# Altium schematic symbol library kmilo17pet-LT_OpAmp_LT2000.SchLib: 1710 symbols (part 28 of 75)
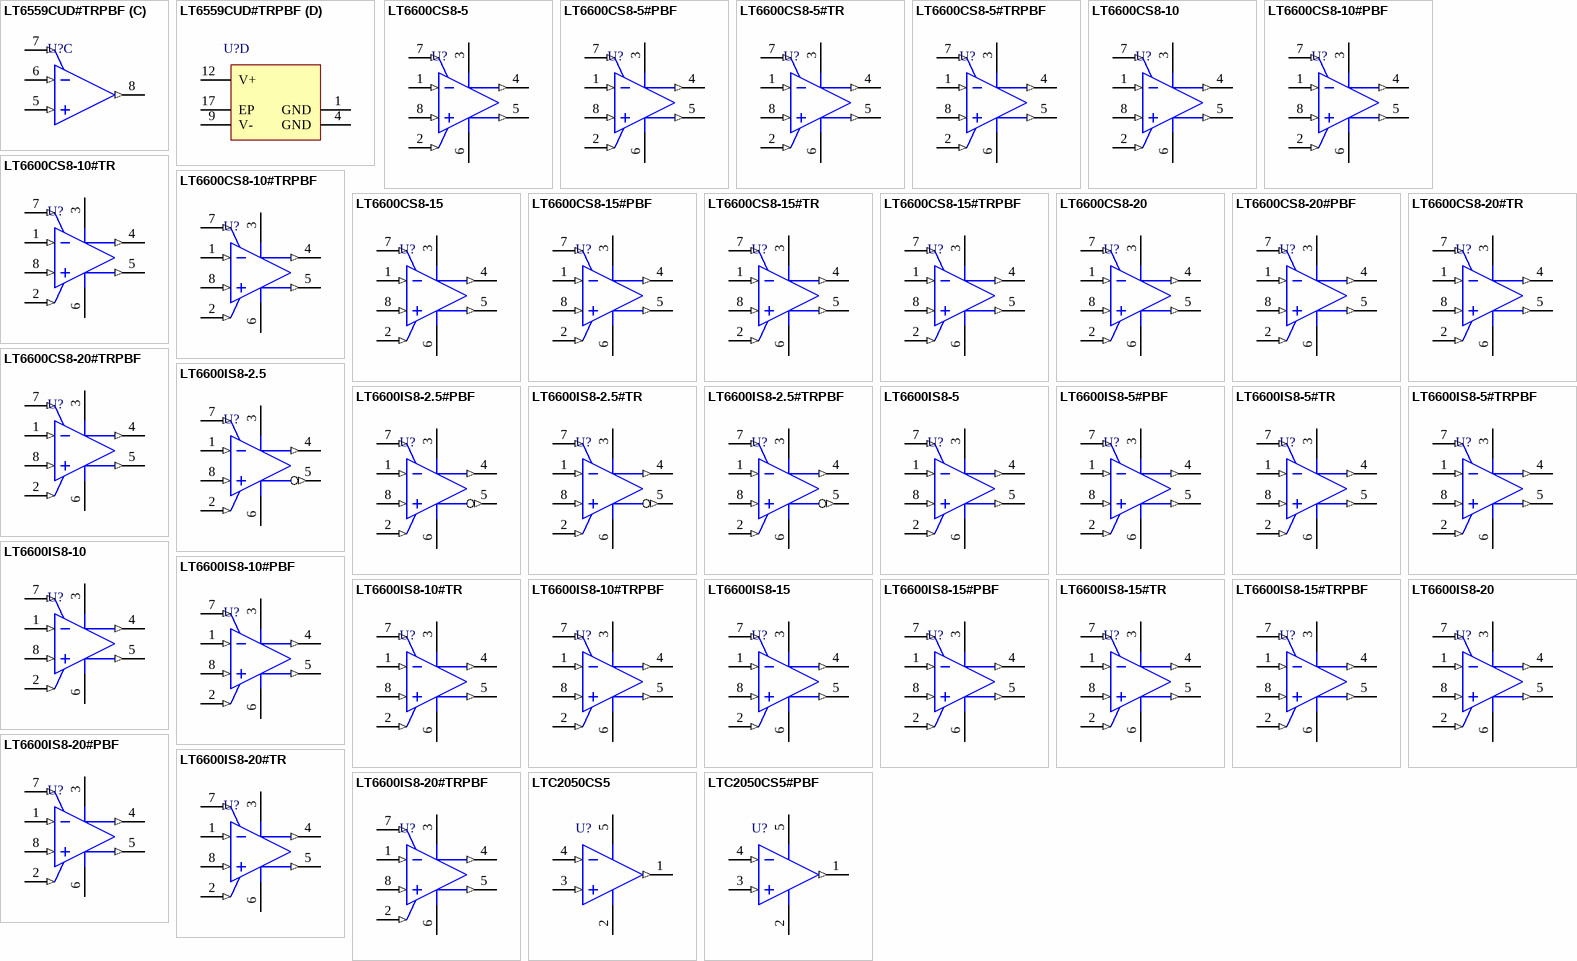
[diagram p107: symbols LT6559CUD#TRPBF to LTC2050CS5#PBF]

## LT6600CS8-20
designator U?
Single Channel, Very Low Noise, Differential Amplifier and 20MHz Lowpass Filter, 20 MHz Typical GBW, 2.7 to 11 V, 8-Pin SOIC (S8-8), Commercial; Linear Technology Part Number: LT6600-20; Manufacturer: Linear Technology; PartNumber: LT6600CS8-20; Channels (#): 1; GBW (MHz) Typical: 20; Is (mA) Typical: 42; Vos (mV) Typical: 5; Vs Max (V): 11; Vs Min (V): 2.7; DatasheetVersion: Rev. B; PackageVersion: Rev G; PackageReference: LT-S8-8; PackageDescription: 8-Pin Plastic Small Outline, Body 4.9 x 3.9 mm, Pitch 1.27 mm; Supplier 1: Digi-Key; Supplier Part Number 1: LT6600CS8-20-ND; Type: DIFF; Mounting Technology: Surface Mount; ComponentLink1Description: Manufacturer URL; ComponentLink1URL: http://www.linear.com/; ComponentLink2Description: Datasheet; ComponentLink2URL: http://cds.linear.com/docs/en/datasheet/66002fb.pdf; ComponentLink3Description: Package Specification; ComponentLink3URL: http://cds.linear.com/docs/en/packaging/05081610_G_SO8.pdf
footprint LT-S8-8_N (SOIC, 8-Leads, Body 4.9x3.9mm, Pitch 1.27mm, IPC Medium Density)
footprint LT-S8-8_L (SOIC, 8-Leads, Body 4.9x3.9mm, Pitch 1.27mm, IPC High Density)
footprint LT-S8-8_M (SOIC, 8-Leads, Body 4.9x3.9mm, Pitch 1.27mm, IPC Low Density)
pins: 1 IN- (in) "Input Pins. Signals can be applied to either or both input pins through identical external resistors, RIN. The DC gain from differential inputs to the differential outputs is 402ohm/RIN.", 2 VOCM (in) "Is the DC Common Mode Reference Voltage for the 2nd Filter Stage. Its value programs the common mode voltage of the differential output of the fi lter. Pin 2 is a high impedance input, which can be driven from an external (See Datasheet)", 3 V+ (power) "Power Supply Pins. For a single 3.3V or 5V supply (Pin 6 grounded) a quality 0.1uF ceramic bypass capacitor is required from the positive supply pin (Pin 3) to the negative supply pin (Pin 6). The bypass should be as close (See Datasheet)", 4 OUT+ (out) "Output Pins. Pins 4 and 5 are the filter differential outputs. Each pin can drive a 100ohm and/or 50pF load.", 5 OUT- (out) "Output Pins. Pins 4 and 5 are the filter differential outputs. Each pin can drive a 100ohm and/or 50pF load.", 6 V- (power) "Power Supply Pins. For a single 3.3V or 5V supply (Pin 6 grounded) a quality 0.1uF ceramic bypass capacitor is required from the positive supply pin (Pin 3) to the negative supply pin (Pin 6). The bypass should be as close (See Datasheet)", 7 VMID (in) "The VMID pin is internally biased at mid-supply, see Block Diagram. For single supply operation, the VMID pin should be bypassed with a quality 0.01uF ceramic capacitor to V-. For dual supply operation, VMID can be bypassed (See Datasheet)", 8 IN+ (in) "Input Pins. Signals can be applied to either or both input pins through identical external resistors, RIN. The DC gain from differential inputs to the differential outputs is 402ohm/RIN."

## LT6600CS8-20#PBF
designator U?
Single Channel, Very Low Noise, Differential Amplifier and 20MHz Lowpass Filter, 20 MHz Typical GBW, 2.7 to 11 V, 8-Pin SOIC (S8-8), Commercial, Pb-Free; Linear Technology Part Number: LT6600-20; Manufacturer: Linear Technology; PartNumber: LT6600CS8-20#PBF; Channels (#): 1; GBW (MHz) Typical: 20; Is (mA) Typical: 42; Vos (mV) Typical: 5; Vs Max (V): 11; Vs Min (V): 2.7; DatasheetVersion: Rev. B; PackageVersion: Rev G; PackageReference: LT-S8-8; PackageDescription: 8-Pin Plastic Small Outline, Body 4.9 x 3.9 mm, Pitch 1.27 mm; Supplier 1: Digi-Key; Supplier Part Number 1: LT6600CS8-20#PBF-ND; Supplier 2: Farnell; Supplier Part Number 2: 2294662; Supplier 3: Newark; Supplier Part Number 3: 57M9568; RoHS: Pb-Free; Type: DIFF; Mounting Technology: Surface Mount; ComponentLink1Description: Manufacturer URL; ComponentLink1URL: http://www.linear.com/; ComponentLink2Description: Datasheet; ComponentLink2URL: http://cds.linear.com/docs/en/datasheet/66002fb.pdf; ComponentLink3Description: Package Specification; ComponentLink3URL: http://cds.linear.com/docs/en/packaging/05081610_G_SO8.pdf
footprint LT-S8-8_N (SOIC, 8-Leads, Body 4.9x3.9mm, Pitch 1.27mm, IPC Medium Density)
footprint LT-S8-8_L (SOIC, 8-Leads, Body 4.9x3.9mm, Pitch 1.27mm, IPC High Density)
footprint LT-S8-8_M (SOIC, 8-Leads, Body 4.9x3.9mm, Pitch 1.27mm, IPC Low Density)
pins: 1 IN- (in) "Input Pins. Signals can be applied to either or both input pins through identical external resistors, RIN. The DC gain from differential inputs to the differential outputs is 402ohm/RIN.", 2 VOCM (in) "Is the DC Common Mode Reference Voltage for the 2nd Filter Stage. Its value programs the common mode voltage of the differential output of the fi lter. Pin 2 is a high impedance input, which can be driven from an external (See Datasheet)", 3 V+ (power) "Power Supply Pins. For a single 3.3V or 5V supply (Pin 6 grounded) a quality 0.1uF ceramic bypass capacitor is required from the positive supply pin (Pin 3) to the negative supply pin (Pin 6). The bypass should be as close (See Datasheet)", 4 OUT+ (out) "Output Pins. Pins 4 and 5 are the filter differential outputs. Each pin can drive a 100ohm and/or 50pF load.", 5 OUT- (out) "Output Pins. Pins 4 and 5 are the filter differential outputs. Each pin can drive a 100ohm and/or 50pF load.", 6 V- (power) "Power Supply Pins. For a single 3.3V or 5V supply (Pin 6 grounded) a quality 0.1uF ceramic bypass capacitor is required from the positive supply pin (Pin 3) to the negative supply pin (Pin 6). The bypass should be as close (See Datasheet)", 7 VMID (in) "The VMID pin is internally biased at mid-supply, see Block Diagram. For single supply operation, the VMID pin should be bypassed with a quality 0.01uF ceramic capacitor to V-. For dual supply operation, VMID can be bypassed (See Datasheet)", 8 IN+ (in) "Input Pins. Signals can be applied to either or both input pins through identical external resistors, RIN. The DC gain from differential inputs to the differential outputs is 402ohm/RIN."

## LT6600CS8-20#TR
designator U?
Single Channel, Very Low Noise, Differential Amplifier and 20MHz Lowpass Filter, 20 MHz Typical GBW, 2.7 to 11 V, 8-Pin SOIC (S8-8), Commercial, Reel; Linear Technology Part Number: LT6600-20; Manufacturer: Linear Technology; PartNumber: LT6600CS8-20#TR; Channels (#): 1; GBW (MHz) Typical: 20; Is (mA) Typical: 42; Vos (mV) Typical: 5; Vs Max (V): 11; Vs Min (V): 2.7; DatasheetVersion: Rev. B; PackageVersion: Rev G; PackageReference: LT-S8-8; PackageDescription: 8-Pin Plastic Small Outline, Body 4.9 x 3.9 mm, Pitch 1.27 mm; Supplier 1: Digi-Key; Supplier Part Number 1: LT6600CS8-20#TR-ND; Packing: Reel; Type: DIFF; Mounting Technology: Surface Mount; ComponentLink1Description: Manufacturer URL; ComponentLink1URL: http://www.linear.com/; ComponentLink2Description: Datasheet; ComponentLink2URL: http://cds.linear.com/docs/en/datasheet/66002fb.pdf; ComponentLink3Description: Package Specification; ComponentLink3URL: http://cds.linear.com/docs/en/packaging/05081610_G_SO8.pdf
footprint LT-S8-8_N (SOIC, 8-Leads, Body 4.9x3.9mm, Pitch 1.27mm, IPC Medium Density)
footprint LT-S8-8_L (SOIC, 8-Leads, Body 4.9x3.9mm, Pitch 1.27mm, IPC High Density)
footprint LT-S8-8_M (SOIC, 8-Leads, Body 4.9x3.9mm, Pitch 1.27mm, IPC Low Density)
pins: 1 IN- (in) "Input Pins. Signals can be applied to either or both input pins through identical external resistors, RIN. The DC gain from differential inputs to the differential outputs is 402ohm/RIN.", 2 VOCM (in) "Is the DC Common Mode Reference Voltage for the 2nd Filter Stage. Its value programs the common mode voltage of the differential output of the fi lter. Pin 2 is a high impedance input, which can be driven from an external (See Datasheet)", 3 V+ (power) "Power Supply Pins. For a single 3.3V or 5V supply (Pin 6 grounded) a quality 0.1uF ceramic bypass capacitor is required from the positive supply pin (Pin 3) to the negative supply pin (Pin 6). The bypass should be as close (See Datasheet)", 4 OUT+ (out) "Output Pins. Pins 4 and 5 are the filter differential outputs. Each pin can drive a 100ohm and/or 50pF load.", 5 OUT- (out) "Output Pins. Pins 4 and 5 are the filter differential outputs. Each pin can drive a 100ohm and/or 50pF load.", 6 V- (power) "Power Supply Pins. For a single 3.3V or 5V supply (Pin 6 grounded) a quality 0.1uF ceramic bypass capacitor is required from the positive supply pin (Pin 3) to the negative supply pin (Pin 6). The bypass should be as close (See Datasheet)", 7 VMID (in) "The VMID pin is internally biased at mid-supply, see Block Diagram. For single supply operation, the VMID pin should be bypassed with a quality 0.01uF ceramic capacitor to V-. For dual supply operation, VMID can be bypassed (See Datasheet)", 8 IN+ (in) "Input Pins. Signals can be applied to either or both input pins through identical external resistors, RIN. The DC gain from differential inputs to the differential outputs is 402ohm/RIN."

## LT6600CS8-20#TRPBF
designator U?
Single Channel, Very Low Noise, Differential Amplifier and 20MHz Lowpass Filter, 20 MHz Typical GBW, 2.7 to 11 V, 8-Pin SOIC (S8-8), Commercial, Pb-Free, Reel; Linear Technology Part Number: LT6600-20; Manufacturer: Linear Technology; PartNumber: LT6600CS8-20#TRPBF; Channels (#): 1; GBW (MHz) Typical: 20; Is (mA) Typical: 42; Vos (mV) Typical: 5; Vs Max (V): 11; Vs Min (V): 2.7; DatasheetVersion: Rev. B; PackageVersion: Rev G; PackageReference: LT-S8-8; PackageDescription: 8-Pin Plastic Small Outline, Body 4.9 x 3.9 mm, Pitch 1.27 mm; Supplier 1: Digi-Key; Supplier Part Number 1: LT6600CS8-20#TRPBF-ND; Packing: Reel; RoHS: Pb-Free; Type: DIFF; Mounting Technology: Surface Mount; ComponentLink1Description: Manufacturer URL; ComponentLink1URL: http://www.linear.com/; ComponentLink2Description: Datasheet; ComponentLink2URL: http://cds.linear.com/docs/en/datasheet/66002fb.pdf; ComponentLink3Description: Package Specification; ComponentLink3URL: http://cds.linear.com/docs/en/packaging/05081610_G_SO8.pdf
footprint LT-S8-8_N (SOIC, 8-Leads, Body 4.9x3.9mm, Pitch 1.27mm, IPC Medium Density)
footprint LT-S8-8_L (SOIC, 8-Leads, Body 4.9x3.9mm, Pitch 1.27mm, IPC High Density)
footprint LT-S8-8_M (SOIC, 8-Leads, Body 4.9x3.9mm, Pitch 1.27mm, IPC Low Density)
pins: 1 IN- (in) "Input Pins. Signals can be applied to either or both input pins through identical external resistors, RIN. The DC gain from differential inputs to the differential outputs is 402ohm/RIN.", 2 VOCM (in) "Is the DC Common Mode Reference Voltage for the 2nd Filter Stage. Its value programs the common mode voltage of the differential output of the fi lter. Pin 2 is a high impedance input, which can be driven from an external (See Datasheet)", 3 V+ (power) "Power Supply Pins. For a single 3.3V or 5V supply (Pin 6 grounded) a quality 0.1uF ceramic bypass capacitor is required from the positive supply pin (Pin 3) to the negative supply pin (Pin 6). The bypass should be as close (See Datasheet)", 4 OUT+ (out) "Output Pins. Pins 4 and 5 are the filter differential outputs. Each pin can drive a 100ohm and/or 50pF load.", 5 OUT- (out) "Output Pins. Pins 4 and 5 are the filter differential outputs. Each pin can drive a 100ohm and/or 50pF load.", 6 V- (power) "Power Supply Pins. For a single 3.3V or 5V supply (Pin 6 grounded) a quality 0.1uF ceramic bypass capacitor is required from the positive supply pin (Pin 3) to the negative supply pin (Pin 6). The bypass should be as close (See Datasheet)", 7 VMID (in) "The VMID pin is internally biased at mid-supply, see Block Diagram. For single supply operation, the VMID pin should be bypassed with a quality 0.01uF ceramic capacitor to V-. For dual supply operation, VMID can be bypassed (See Datasheet)", 8 IN+ (in) "Input Pins. Signals can be applied to either or both input pins through identical external resistors, RIN. The DC gain from differential inputs to the differential outputs is 402ohm/RIN."

## LT6600IS8-2.5
designator U?
Single Channel, Very Low Noise, Differential Amplifier and 2.5 MHz Lowpass Filter, 2.5 MHz Typical GBW, 2.7 to 11 V, 8-pin SOIC (S8-8), Industrial; Linear Technology Part Number: LT6600-2.5; Manufacturer: Linear Technology; PartNumber: LT6600IS8-2.5; Channels (#): 1; GBW (MHz) Typical: 2.5; Is (mA) Typical: 26; Vos (mV) Typical: 3; Vs Max (V): 11; Vs Min (V): 2.7; DatasheetVersion: Rev. E; PackageVersion: Rev G; PackageReference: LT-S8-8; PackageDescription: 8-Pin Plastic Small Outline, Body 4.9 x 3.9 mm, Pitch 1.27 mm; Supplier 1: Digi-Key; Supplier Part Number 1: LT6600IS8-2.5-ND; Type: DIFF; Mounting Technology: Surface Mount; ComponentLink1Description: Manufacturer URL; ComponentLink1URL: http://www.linear.com/; ComponentLink2Description: Datasheet; ComponentLink2URL: http://cds.linear.com/docs/en/datasheet/660025fe.pdf; ComponentLink3Description: Package Specification; ComponentLink3URL: http://cds.linear.com/docs/en/packaging/05081610_G_SO8.pdf
footprint LT-S8-8_N (SOIC, 8-Leads, Body 4.9x3.9mm, Pitch 1.27mm, IPC Medium Density)
footprint LT-S8-8_L (SOIC, 8-Leads, Body 4.9x3.9mm, Pitch 1.27mm, IPC High Density)
footprint LT-S8-8_M (SOIC, 8-Leads, Body 4.9x3.9mm, Pitch 1.27mm, IPC Low Density)
pins: 1 IN- (in) "Input Pins. Signals can be applied to either or both input pins through identical external resistors, RIN. The DC gain from differential inputs to the differential outputs is 1580ohm/RIN.", 2 VOCM (in) "DC Common Mode Reference Voltagefor the 2nd Filter Stage. Its value programs the common mode voltage of the differential output of the fi lter. This is a high impedance input, which can be driven from an external voltage (See Datasheet)", 3 V+ (power) "Power Supply Pins. For a single 3.3V or 5V supply (V- grounded) a quality 0.1uf ceramic bypass capacitor is required from the positive supply pin (V+) to the negative supply pin (V-). The bypass should be as close as (See Datasheet)", 4 OUT+ (out) "Output Pins. These are the filter differential outputs. Each pin can drive a 100ohm and/or 50pF load to AC ground.", 5 OUT- (out) "Output Pins. These are the filter differential outputs. Each pin can drive a 100ohm and/or 50pF load to AC ground.", 6 V- (power) "Power Supply Pins. For a single 3.3V or 5V supply (V- grounded) a quality 0.1uf ceramic bypass capacitor is required from the positive supply pin (V+) to the negative supply pin (V-). The bypass should be as close as (See Datasheet)", 7 VMID (in) "The VMID pin is internally biased at mid-supply, see Block Diagram. For single supply operation, the VMID pin should be bypassed with a quality 0.01uF ceramic capacitor to V-. For dual supply operation, VMID can be bypassed (See Datasheet)", 8 IN+ (in) "Input Pins. Signals can be applied to either or both input pins through identical external resistors, RIN. The DC gain from differential inputs to the differential outputs is 1580ohm/RIN."

## LT6600IS8-2.5#PBF
designator U?
Single Channel, Very Low Noise, Differential Amplifier and 2.5 MHz Lowpass Filter, 2.5 MHz Typical GBW, 2.7 to 11 V, 8-pin SOIC (S8-8), Industrial, Pb-Free; Linear Technology Part Number: LT6600-2.5; Manufacturer: Linear Technology; PartNumber: LT6600IS8-2.5#PBF; Channels (#): 1; GBW (MHz) Typical: 2.5; Is (mA) Typical: 26; Vos (mV) Typical: 3; Vs Max (V): 11; Vs Min (V): 2.7; DatasheetVersion: Rev. E; PackageVersion: Rev G; PackageReference: LT-S8-8; PackageDescription: 8-Pin Plastic Small Outline, Body 4.9 x 3.9 mm, Pitch 1.27 mm; Supplier 1: Digi-Key; Supplier Part Number 1: LT6600IS8-2.5#PBF-ND; Supplier 2: Newark; Supplier Part Number 2: 57M9584; RoHS: Pb-Free; Type: DIFF; Mounting Technology: Surface Mount; ComponentLink1Description: Manufacturer URL; ComponentLink1URL: http://www.linear.com/; ComponentLink2Description: Datasheet; ComponentLink2URL: http://cds.linear.com/docs/en/datasheet/660025fe.pdf; ComponentLink3Description: Package Specification; ComponentLink3URL: http://cds.linear.com/docs/en/packaging/05081610_G_SO8.pdf
footprint LT-S8-8_N (SOIC, 8-Leads, Body 4.9x3.9mm, Pitch 1.27mm, IPC Medium Density)
footprint LT-S8-8_L (SOIC, 8-Leads, Body 4.9x3.9mm, Pitch 1.27mm, IPC High Density)
footprint LT-S8-8_M (SOIC, 8-Leads, Body 4.9x3.9mm, Pitch 1.27mm, IPC Low Density)
pins: 1 IN- (in) "Input Pins. Signals can be applied to either or both input pins through identical external resistors, RIN. The DC gain from differential inputs to the differential outputs is 1580ohm/RIN.", 2 VOCM (in) "DC Common Mode Reference Voltagefor the 2nd Filter Stage. Its value programs the common mode voltage of the differential output of the fi lter. This is a high impedance input, which can be driven from an external voltage (See Datasheet)", 3 V+ (power) "Power Supply Pins. For a single 3.3V or 5V supply (V- grounded) a quality 0.1uf ceramic bypass capacitor is required from the positive supply pin (V+) to the negative supply pin (V-). The bypass should be as close as (See Datasheet)", 4 OUT+ (out) "Output Pins. These are the filter differential outputs. Each pin can drive a 100ohm and/or 50pF load to AC ground.", 5 OUT- (out) "Output Pins. These are the filter differential outputs. Each pin can drive a 100ohm and/or 50pF load to AC ground.", 6 V- (power) "Power Supply Pins. For a single 3.3V or 5V supply (V- grounded) a quality 0.1uf ceramic bypass capacitor is required from the positive supply pin (V+) to the negative supply pin (V-). The bypass should be as close as (See Datasheet)", 7 VMID (in) "The VMID pin is internally biased at mid-supply, see Block Diagram. For single supply operation, the VMID pin should be bypassed with a quality 0.01uF ceramic capacitor to V-. For dual supply operation, VMID can be bypassed (See Datasheet)", 8 IN+ (in) "Input Pins. Signals can be applied to either or both input pins through identical external resistors, RIN. The DC gain from differential inputs to the differential outputs is 1580ohm/RIN."

## LT6600IS8-2.5#TR
designator U?
Single Channel, Very Low Noise, Differential Amplifier and 2.5 MHz Lowpass Filter, 2.5 MHz Typical GBW, 2.7 to 11 V, 8-pin SOIC (S8-8), Industrial, Reel; Linear Technology Part Number: LT6600-2.5; Manufacturer: Linear Technology; PartNumber: LT6600IS8-2.5#TR; Channels (#): 1; GBW (MHz) Typical: 2.5; Is (mA) Typical: 26; Vos (mV) Typical: 3; Vs Max (V): 11; Vs Min (V): 2.7; DatasheetVersion: Rev. E; PackageVersion: Rev G; PackageReference: LT-S8-8; PackageDescription: 8-Pin Plastic Small Outline, Body 4.9 x 3.9 mm, Pitch 1.27 mm; Supplier 1: Digi-Key; Supplier Part Number 1: LT6600IS8-2.5#TR-ND; Packing: Reel; Type: DIFF; Mounting Technology: Surface Mount; ComponentLink1Description: Manufacturer URL; ComponentLink1URL: http://www.linear.com/; ComponentLink2Description: Datasheet; ComponentLink2URL: http://cds.linear.com/docs/en/datasheet/660025fe.pdf; ComponentLink3Description: Package Specification; ComponentLink3URL: http://cds.linear.com/docs/en/packaging/05081610_G_SO8.pdf
footprint LT-S8-8_N (SOIC, 8-Leads, Body 4.9x3.9mm, Pitch 1.27mm, IPC Medium Density)
footprint LT-S8-8_L (SOIC, 8-Leads, Body 4.9x3.9mm, Pitch 1.27mm, IPC High Density)
footprint LT-S8-8_M (SOIC, 8-Leads, Body 4.9x3.9mm, Pitch 1.27mm, IPC Low Density)
pins: 1 IN- (in) "Input Pins. Signals can be applied to either or both input pins through identical external resistors, RIN. The DC gain from differential inputs to the differential outputs is 1580ohm/RIN.", 2 VOCM (in) "DC Common Mode Reference Voltagefor the 2nd Filter Stage. Its value programs the common mode voltage of the differential output of the fi lter. This is a high impedance input, which can be driven from an external voltage (See Datasheet)", 3 V+ (power) "Power Supply Pins. For a single 3.3V or 5V supply (V- grounded) a quality 0.1uf ceramic bypass capacitor is required from the positive supply pin (V+) to the negative supply pin (V-). The bypass should be as close as (See Datasheet)", 4 OUT+ (out) "Output Pins. These are the filter differential outputs. Each pin can drive a 100ohm and/or 50pF load to AC ground.", 5 OUT- (out) "Output Pins. These are the filter differential outputs. Each pin can drive a 100ohm and/or 50pF load to AC ground.", 6 V- (power) "Power Supply Pins. For a single 3.3V or 5V supply (V- grounded) a quality 0.1uf ceramic bypass capacitor is required from the positive supply pin (V+) to the negative supply pin (V-). The bypass should be as close as (See Datasheet)", 7 VMID (in) "The VMID pin is internally biased at mid-supply, see Block Diagram. For single supply operation, the VMID pin should be bypassed with a quality 0.01uF ceramic capacitor to V-. For dual supply operation, VMID can be bypassed (See Datasheet)", 8 IN+ (in) "Input Pins. Signals can be applied to either or both input pins through identical external resistors, RIN. The DC gain from differential inputs to the differential outputs is 1580ohm/RIN."

## LT6600IS8-2.5#TRPBF
designator U?
Single Channel, Very Low Noise, Differential Amplifier and 2.5 MHz Lowpass Filter, 2.5 MHz Typical GBW, 2.7 to 11 V, 8-pin SOIC (S8-8), Industrial, Pb-Free, Reel; Linear Technology Part Number: LT6600-2.5; Manufacturer: Linear Technology; PartNumber: LT6600IS8-2.5#TRPBF; Channels (#): 1; GBW (MHz) Typical: 2.5; Is (mA) Typical: 26; Vos (mV) Typical: 3; Vs Max (V): 11; Vs Min (V): 2.7; DatasheetVersion: Rev. E; PackageVersion: Rev G; PackageReference: LT-S8-8; PackageDescription: 8-Pin Plastic Small Outline, Body 4.9 x 3.9 mm, Pitch 1.27 mm; Supplier 1: Digi-Key; Supplier Part Number 1: LT6600IS8-2.5#TRPBF-ND; Packing: Reel; RoHS: Pb-Free; Type: DIFF; Mounting Technology: Surface Mount; ComponentLink1Description: Manufacturer URL; ComponentLink1URL: http://www.linear.com/; ComponentLink2Description: Datasheet; ComponentLink2URL: http://cds.linear.com/docs/en/datasheet/660025fe.pdf; ComponentLink3Description: Package Specification; ComponentLink3URL: http://cds.linear.com/docs/en/packaging/05081610_G_SO8.pdf
footprint LT-S8-8_N (SOIC, 8-Leads, Body 4.9x3.9mm, Pitch 1.27mm, IPC Medium Density)
footprint LT-S8-8_L (SOIC, 8-Leads, Body 4.9x3.9mm, Pitch 1.27mm, IPC High Density)
footprint LT-S8-8_M (SOIC, 8-Leads, Body 4.9x3.9mm, Pitch 1.27mm, IPC Low Density)
pins: 1 IN- (in) "Input Pins. Signals can be applied to either or both input pins through identical external resistors, RIN. The DC gain from differential inputs to the differential outputs is 1580ohm/RIN.", 2 VOCM (in) "DC Common Mode Reference Voltagefor the 2nd Filter Stage. Its value programs the common mode voltage of the differential output of the fi lter. This is a high impedance input, which can be driven from an external voltage (See Datasheet)", 3 V+ (power) "Power Supply Pins. For a single 3.3V or 5V supply (V- grounded) a quality 0.1uf ceramic bypass capacitor is required from the positive supply pin (V+) to the negative supply pin (V-). The bypass should be as close as (See Datasheet)", 4 OUT+ (out) "Output Pins. These are the filter differential outputs. Each pin can drive a 100ohm and/or 50pF load to AC ground.", 5 OUT- (out) "Output Pins. These are the filter differential outputs. Each pin can drive a 100ohm and/or 50pF load to AC ground.", 6 V- (power) "Power Supply Pins. For a single 3.3V or 5V supply (V- grounded) a quality 0.1uf ceramic bypass capacitor is required from the positive supply pin (V+) to the negative supply pin (V-). The bypass should be as close as (See Datasheet)", 7 VMID (in) "The VMID pin is internally biased at mid-supply, see Block Diagram. For single supply operation, the VMID pin should be bypassed with a quality 0.01uF ceramic capacitor to V-. For dual supply operation, VMID can be bypassed (See Datasheet)", 8 IN+ (in) "Input Pins. Signals can be applied to either or both input pins through identical external resistors, RIN. The DC gain from differential inputs to the differential outputs is 1580ohm/RIN."

## LT6600IS8-5
designator U?
Single Channel, Very Low Noise, Differential Amplifier and 5 MHz Lowpass Filter, 5 MHz Typical GBW, 2.7 to 11 V, 8-Pin SOIC (S8-8), Industrial; Linear Technology Part Number: LT6600-5; Manufacturer: Linear Technology; PartNumber: LT6600IS8-5; Channels (#): 1; GBW (MHz) Typical: 5; Is (mA) Typical: 28; Vs Max (V): 11; Vs Min (V): 2.7; DatasheetVersion: Rev. B; PackageVersion: Rev G; PackageReference: LT-S8-8; PackageDescription: 8-Pin Plastic Small Outline, Body 4.9 x 3.9 mm, Pitch 1.27 mm; Type: DIFF; Vos (mV) Typical: 5; Mounting Technology: Surface Mount; ComponentLink1Description: Manufacturer URL; ComponentLink1URL: http://www.linear.com/; ComponentLink2Description: Datasheet; ComponentLink2URL: http://cds.linear.com/docs/en/datasheet/66005fb.pdf; ComponentLink3Description: Package Specification; ComponentLink3URL: http://cds.linear.com/docs/en/packaging/05081610_G_SO8.pdf
footprint LT-S8-8_N (SOIC, 8-Leads, Body 4.9x3.9mm, Pitch 1.27mm, IPC Medium Density)
footprint LT-S8-8_L (SOIC, 8-Leads, Body 4.9x3.9mm, Pitch 1.27mm, IPC High Density)
footprint LT-S8-8_M (SOIC, 8-Leads, Body 4.9x3.9mm, Pitch 1.27mm, IPC Low Density)
pins: 1 IN- (in) "Input Pins. Signals can be applied to either or both input pins through identical external resistors, RIN. The DC gain from differential inputs to the differential outputs is 1580ohm/RIN.", 2 VOCM (in) "Is the DC Common Mode Reference Voltage for the 2nd Filter Stage. Its value programs the common mode voltage of the differential output of the fi lter. This is a high impedance input, which can be driven from an external (See Datasheet)", 3 V+ (power) "Power Supply Pins. For a single 3.3V or 5V supply (V- grounded) a quality 0.1uF ceramic bypass capacitor is required from the positive supply pin (V+) to the negative supply pin (V-). The bypass should be as close as (See Datasheet)", 4 OUT+ (out) "Output Pins. These are the fi lter differential outputs. Each pin can drive a 100O and/or 50pF load to AC ground.", 5 OUT- (out) "Output Pins. These are the fi lter differential outputs. Each pin can drive a 100ohm and/or 50pF load to AC ground.", 6 V- (power) "Power Supply Pins. For a single 3.3V or 5V supply (V- grounded) a quality 0.1µF ceramic bypass capacitor is required from the positive supply pin (V+) to the negative supply pin (V-). The bypass should be as close as (See Datasheet)", 7 VMID (in) "The VMID pin is internally biased at mid-supply, see block diagram. For single-supply operation the VMID pin should be bypassed with a quality 0.01uF ceramic capacitor to V-. For dual supply operation, VMID can be bypassed (See Datasheet)", 8 IN+ (in) "Input Pins. Signals can be applied to either or both input pins through identical external resistors, RIN. The DC gain from differential inputs to the differential outputs is 1580ohm/RIN."

## LT6600IS8-5#PBF
designator U?
Single Channel, Very Low Noise, Differential Amplifier and 5 MHz Lowpass Filter, 5 MHz Typical GBW, 2.7 to 11 V, 8-Pin SOIC (S8-8), Industrial, Pb-Free; Linear Technology Part Number: LT6600-5; Manufacturer: Linear Technology; PartNumber: LT6600IS8-5#PBF; Channels (#): 1; GBW (MHz) Typical: 5; Is (mA) Typical: 28; Vs Max (V): 11; Vs Min (V): 2.7; DatasheetVersion: Rev. B; PackageVersion: Rev G; PackageReference: LT-S8-8; PackageDescription: 8-Pin Plastic Small Outline, Body 4.9 x 3.9 mm, Pitch 1.27 mm; Supplier 1: Digi-Key; Supplier Part Number 1: LT6600IS8-5#PBF-ND; Supplier 2: Farnell; Supplier Part Number 2: 1345601; Supplier 3: Newark; Supplier Part Number 3: 57M9592; RoHS: Pb-Free; Type: DIFF; Vos (mV) Typical: 5; Mounting Technology: Surface Mount; ComponentLink1Description: Manufacturer URL; ComponentLink1URL: http://www.linear.com/; ComponentLink2Description: Datasheet; ComponentLink2URL: http://cds.linear.com/docs/en/datasheet/66005fb.pdf; ComponentLink3Description: Package Specification; ComponentLink3URL: http://cds.linear.com/docs/en/packaging/05081610_G_SO8.pdf
footprint LT-S8-8_N (SOIC, 8-Leads, Body 4.9x3.9mm, Pitch 1.27mm, IPC Medium Density)
footprint LT-S8-8_L (SOIC, 8-Leads, Body 4.9x3.9mm, Pitch 1.27mm, IPC High Density)
footprint LT-S8-8_M (SOIC, 8-Leads, Body 4.9x3.9mm, Pitch 1.27mm, IPC Low Density)
pins: 1 IN- (in) "Input Pins. Signals can be applied to either or both input pins through identical external resistors, RIN. The DC gain from differential inputs to the differential outputs is 1580ohm/RIN.", 2 VOCM (in) "Is the DC Common Mode Reference Voltage for the 2nd Filter Stage. Its value programs the common mode voltage of the differential output of the fi lter. This is a high impedance input, which can be driven from an external (See Datasheet)", 3 V+ (power) "Power Supply Pins. For a single 3.3V or 5V supply (V- grounded) a quality 0.1uF ceramic bypass capacitor is required from the positive supply pin (V+) to the negative supply pin (V-). The bypass should be as close as (See Datasheet)", 4 OUT+ (out) "Output Pins. These are the fi lter differential outputs. Each pin can drive a 100O and/or 50pF load to AC ground.", 5 OUT- (out) "Output Pins. These are the fi lter differential outputs. Each pin can drive a 100ohm and/or 50pF load to AC ground.", 6 V- (power) "Power Supply Pins. For a single 3.3V or 5V supply (V- grounded) a quality 0.1µF ceramic bypass capacitor is required from the positive supply pin (V+) to the negative supply pin (V-). The bypass should be as close as (See Datasheet)", 7 VMID (in) "The VMID pin is internally biased at mid-supply, see block diagram. For single-supply operation the VMID pin should be bypassed with a quality 0.01uF ceramic capacitor to V-. For dual supply operation, VMID can be bypassed (See Datasheet)", 8 IN+ (in) "Input Pins. Signals can be applied to either or both input pins through identical external resistors, RIN. The DC gain from differential inputs to the differential outputs is 1580ohm/RIN."

## LT6600IS8-5#TR
designator U?
Single Channel, Very Low Noise, Differential Amplifier and 5 MHz Lowpass Filter, 5 MHz Typical GBW, 2.7 to 11 V, 8-Pin SOIC (S8-8), Industrial, Reel; Linear Technology Part Number: LT6600-5; Manufacturer: Linear Technology; PartNumber: LT6600IS8-5#TR; Channels (#): 1; GBW (MHz) Typical: 5; Is (mA) Typical: 28; Vs Max (V): 11; Vs Min (V): 2.7; DatasheetVersion: Rev. B; PackageVersion: Rev G; PackageReference: LT-S8-8; PackageDescription: 8-Pin Plastic Small Outline, Body 4.9 x 3.9 mm, Pitch 1.27 mm; Packing: Reel; Type: DIFF; Vos (mV) Typical: 5; Mounting Technology: Surface Mount; ComponentLink1Description: Manufacturer URL; ComponentLink1URL: http://www.linear.com/; ComponentLink2Description: Datasheet; ComponentLink2URL: http://cds.linear.com/docs/en/datasheet/66005fb.pdf; ComponentLink3Description: Package Specification; ComponentLink3URL: http://cds.linear.com/docs/en/packaging/05081610_G_SO8.pdf
footprint LT-S8-8_N (SOIC, 8-Leads, Body 4.9x3.9mm, Pitch 1.27mm, IPC Medium Density)
footprint LT-S8-8_L (SOIC, 8-Leads, Body 4.9x3.9mm, Pitch 1.27mm, IPC High Density)
footprint LT-S8-8_M (SOIC, 8-Leads, Body 4.9x3.9mm, Pitch 1.27mm, IPC Low Density)
pins: 1 IN- (in) "Input Pins. Signals can be applied to either or both input pins through identical external resistors, RIN. The DC gain from differential inputs to the differential outputs is 1580ohm/RIN.", 2 VOCM (in) "Is the DC Common Mode Reference Voltage for the 2nd Filter Stage. Its value programs the common mode voltage of the differential output of the fi lter. This is a high impedance input, which can be driven from an external (See Datasheet)", 3 V+ (power) "Power Supply Pins. For a single 3.3V or 5V supply (V- grounded) a quality 0.1uF ceramic bypass capacitor is required from the positive supply pin (V+) to the negative supply pin (V-). The bypass should be as close as (See Datasheet)", 4 OUT+ (out) "Output Pins. These are the fi lter differential outputs. Each pin can drive a 100O and/or 50pF load to AC ground.", 5 OUT- (out) "Output Pins. These are the fi lter differential outputs. Each pin can drive a 100ohm and/or 50pF load to AC ground.", 6 V- (power) "Power Supply Pins. For a single 3.3V or 5V supply (V- grounded) a quality 0.1µF ceramic bypass capacitor is required from the positive supply pin (V+) to the negative supply pin (V-). The bypass should be as close as (See Datasheet)", 7 VMID (in) "The VMID pin is internally biased at mid-supply, see block diagram. For single-supply operation the VMID pin should be bypassed with a quality 0.01uF ceramic capacitor to V-. For dual supply operation, VMID can be bypassed (See Datasheet)", 8 IN+ (in) "Input Pins. Signals can be applied to either or both input pins through identical external resistors, RIN. The DC gain from differential inputs to the differential outputs is 1580ohm/RIN."

## LT6600IS8-5#TRPBF
designator U?
Single Channel, Very Low Noise, Differential Amplifier and 5 MHz Lowpass Filter, 5 MHz Typical GBW, 2.7 to 11 V, 8-Pin SOIC (S8-8), Industrial, Pb-Free, Reel; Linear Technology Part Number: LT6600-5; Manufacturer: Linear Technology; PartNumber: LT6600IS8-5#TRPBF; Channels (#): 1; GBW (MHz) Typical: 5; Is (mA) Typical: 28; Vs Max (V): 11; Vs Min (V): 2.7; DatasheetVersion: Rev. B; PackageVersion: Rev G; PackageReference: LT-S8-8; PackageDescription: 8-Pin Plastic Small Outline, Body 4.9 x 3.9 mm, Pitch 1.27 mm; Supplier 1: Digi-Key; Supplier Part Number 1: LT6600IS8-5#TRPBF-ND; Packing: Reel; RoHS: Pb-Free; Type: DIFF; Vos (mV) Typical: 5; Mounting Technology: Surface Mount; ComponentLink1Description: Manufacturer URL; ComponentLink1URL: http://www.linear.com/; ComponentLink2Description: Datasheet; ComponentLink2URL: http://cds.linear.com/docs/en/datasheet/66005fb.pdf; ComponentLink3Description: Package Specification; ComponentLink3URL: http://cds.linear.com/docs/en/packaging/05081610_G_SO8.pdf
footprint LT-S8-8_N (SOIC, 8-Leads, Body 4.9x3.9mm, Pitch 1.27mm, IPC Medium Density)
footprint LT-S8-8_L (SOIC, 8-Leads, Body 4.9x3.9mm, Pitch 1.27mm, IPC High Density)
footprint LT-S8-8_M (SOIC, 8-Leads, Body 4.9x3.9mm, Pitch 1.27mm, IPC Low Density)
pins: 1 IN- (in) "Input Pins. Signals can be applied to either or both input pins through identical external resistors, RIN. The DC gain from differential inputs to the differential outputs is 1580ohm/RIN.", 2 VOCM (in) "Is the DC Common Mode Reference Voltage for the 2nd Filter Stage. Its value programs the common mode voltage of the differential output of the fi lter. This is a high impedance input, which can be driven from an external (See Datasheet)", 3 V+ (power) "Power Supply Pins. For a single 3.3V or 5V supply (V- grounded) a quality 0.1uF ceramic bypass capacitor is required from the positive supply pin (V+) to the negative supply pin (V-). The bypass should be as close as (See Datasheet)", 4 OUT+ (out) "Output Pins. These are the fi lter differential outputs. Each pin can drive a 100O and/or 50pF load to AC ground.", 5 OUT- (out) "Output Pins. These are the fi lter differential outputs. Each pin can drive a 100ohm and/or 50pF load to AC ground.", 6 V- (power) "Power Supply Pins. For a single 3.3V or 5V supply (V- grounded) a quality 0.1µF ceramic bypass capacitor is required from the positive supply pin (V+) to the negative supply pin (V-). The bypass should be as close as (See Datasheet)", 7 VMID (in) "The VMID pin is internally biased at mid-supply, see block diagram. For single-supply operation the VMID pin should be bypassed with a quality 0.01uF ceramic capacitor to V-. For dual supply operation, VMID can be bypassed (See Datasheet)", 8 IN+ (in) "Input Pins. Signals can be applied to either or both input pins through identical external resistors, RIN. The DC gain from differential inputs to the differential outputs is 1580ohm/RIN."

## LT6600IS8-10
designator U?
Single Channel, Very Low Noise, Differential Amplifier and 10 MHz Lowpass Filter, 10 MHz Typical GBW, 2.7 to 11 V, 8-Pin SOIC (S8-8), Industrial; Linear Technology Part Number: LT6600-10; Manufacturer: Linear Technology; PartNumber: LT6600IS8-10; Channels (#): 1; GBW (MHz) Typical: 10; Is (mA) Typical: 35; Vos (mV) Typical: 5; Vs Max (V): 11; Vs Min (V): 2.7; DatasheetVersion: Rev. E; PackageVersion: Rev G; PackageReference: LT-S8-8; PackageDescription: 8-Pin Plastic Small Outline, Body 4.9 x 3.9 mm, Pitch 1.27 mm; Supplier 1: Digi-Key; Supplier Part Number 1: LT6600IS8-10-ND; Type: DIFF; Mounting Technology: Surface Mount; ComponentLink1Description: Manufacturer URL; ComponentLink1URL: http://www.linear.com/; ComponentLink2Description: Datasheet; ComponentLink2URL: http://cds.linear.com/docs/en/datasheet/66001fe.pdf; ComponentLink3Description: Package Specification; ComponentLink3URL: http://cds.linear.com/docs/en/packaging/05081610_G_SO8.pdf
footprint LT-S8-8_N (SOIC, 8-Leads, Body 4.9x3.9mm, Pitch 1.27mm, IPC Medium Density)
footprint LT-S8-8_L (SOIC, 8-Leads, Body 4.9x3.9mm, Pitch 1.27mm, IPC High Density)
footprint LT-S8-8_M (SOIC, 8-Leads, Body 4.9x3.9mm, Pitch 1.27mm, IPC Low Density)
pins: 1 IN- (in) "Input Pins. Signals can be applied to either or both input pins through identical external resistors, RIN. The DC gain from differential inputs to the differential outputs is 1580ohm/RIN.", 2 VOCM (in) "Is the DC Common Mode Reference Voltage for the 2nd Filter Stage. Its value programs the common mode voltage of the differential output of the fi lter. This is a high impedance input, which can be driven from an external (See Datasheet)", 3 V+ (power) "Power Supply Pins. For a single 3.3V or 5V supply (V- grounded) a quality 0.1uF ceramic bypass capacitor is required from the positive supply pin (V+) to the negative supply pin (V-). The bypass should be as close as (See Datasheet)", 4 OUT+ (out) "Output Pins. These are the fi lter differential outputs. Each pin can drive a 100O and/or 50pF load to AC ground.", 5 OUT- (out) "Output Pins. These are the fi lter differential outputs. Each pin can drive a 100ohm and/or 50pF load to AC ground.", 6 V- (power) "Power Supply Pins. For a single 3.3V or 5V supply (V- grounded) a quality 0.1µF ceramic bypass capacitor is required from the positive supply pin (V+) to the negative supply pin (V-). The bypass should be as close as (See Datasheet)", 7 VMID (in) "The VMID pin is internally biased at mid-supply, see block diagram. For single-supply operation the VMID pin should be bypassed with a quality 0.01uF ceramic capacitor to V-. For dual supply operation, VMID can be bypassed (See Datasheet)", 8 IN+ (in) "Input Pins. Signals can be applied to either or both input pins through identical external resistors, RIN. The DC gain from differential inputs to the differential outputs is 1580ohm/RIN."

## LT6600IS8-10#PBF
designator U?
Single Channel, Very Low Noise, Differential Amplifier and 10 MHz Lowpass Filter, 10 MHz Typical GBW, 2.7 to 11 V, 8-Pin SOIC (S8-8), Industrial, Pb-Free; Linear Technology Part Number: LT6600-10; Manufacturer: Linear Technology; PartNumber: LT6600IS8-10#PBF; Channels (#): 1; GBW (MHz) Typical: 10; Is (mA) Typical: 35; Vos (mV) Typical: 5; Vs Max (V): 11; Vs Min (V): 2.7; DatasheetVersion: Rev. E; PackageVersion: Rev G; PackageReference: LT-S8-8; PackageDescription: 8-Pin Plastic Small Outline, Body 4.9 x 3.9 mm, Pitch 1.27 mm; Supplier 1: Digi-Key; Supplier Part Number 1: LT6600IS8-10#PBF-ND; Supplier 2: Farnell; Supplier Part Number 2: 1345585; Supplier 3: Newark; Supplier Part Number 3: 57M9576; RoHS: Pb-Free; Type: DIFF; Mounting Technology: Surface Mount; ComponentLink1Description: Manufacturer URL; ComponentLink1URL: http://www.linear.com/; ComponentLink2Description: Datasheet; ComponentLink2URL: http://cds.linear.com/docs/en/datasheet/66001fe.pdf; ComponentLink3Description: Package Specification; ComponentLink3URL: http://cds.linear.com/docs/en/packaging/05081610_G_SO8.pdf
footprint LT-S8-8_N (SOIC, 8-Leads, Body 4.9x3.9mm, Pitch 1.27mm, IPC Medium Density)
footprint LT-S8-8_L (SOIC, 8-Leads, Body 4.9x3.9mm, Pitch 1.27mm, IPC High Density)
footprint LT-S8-8_M (SOIC, 8-Leads, Body 4.9x3.9mm, Pitch 1.27mm, IPC Low Density)
pins: 1 IN- (in) "Input Pins. Signals can be applied to either or both input pins through identical external resistors, RIN. The DC gain from differential inputs to the differential outputs is 1580ohm/RIN.", 2 VOCM (in) "Is the DC Common Mode Reference Voltage for the 2nd Filter Stage. Its value programs the common mode voltage of the differential output of the fi lter. This is a high impedance input, which can be driven from an external (See Datasheet)", 3 V+ (power) "Power Supply Pins. For a single 3.3V or 5V supply (V- grounded) a quality 0.1uF ceramic bypass capacitor is required from the positive supply pin (V+) to the negative supply pin (V-). The bypass should be as close as (See Datasheet)", 4 OUT+ (out) "Output Pins. These are the fi lter differential outputs. Each pin can drive a 100O and/or 50pF load to AC ground.", 5 OUT- (out) "Output Pins. These are the fi lter differential outputs. Each pin can drive a 100ohm and/or 50pF load to AC ground.", 6 V- (power) "Power Supply Pins. For a single 3.3V or 5V supply (V- grounded) a quality 0.1µF ceramic bypass capacitor is required from the positive supply pin (V+) to the negative supply pin (V-). The bypass should be as close as (See Datasheet)", 7 VMID (in) "The VMID pin is internally biased at mid-supply, see block diagram. For single-supply operation the VMID pin should be bypassed with a quality 0.01uF ceramic capacitor to V-. For dual supply operation, VMID can be bypassed (See Datasheet)", 8 IN+ (in) "Input Pins. Signals can be applied to either or both input pins through identical external resistors, RIN. The DC gain from differential inputs to the differential outputs is 1580ohm/RIN."

## LT6600IS8-10#TR
designator U?
Single Channel, Very Low Noise, Differential Amplifier and 10 MHz Lowpass Filter, 10 MHz Typical GBW, 2.7 to 11 V, 8-Pin SOIC (S8-8), Industrial, Reel; Linear Technology Part Number: LT6600-10; Manufacturer: Linear Technology; PartNumber: LT6600IS8-10#TR; Channels (#): 1; GBW (MHz) Typical: 10; Is (mA) Typical: 35; Vos (mV) Typical: 5; Vs Max (V): 11; Vs Min (V): 2.7; DatasheetVersion: Rev. E; PackageVersion: Rev G; PackageReference: LT-S8-8; PackageDescription: 8-Pin Plastic Small Outline, Body 4.9 x 3.9 mm, Pitch 1.27 mm; Supplier 1: Digi-Key; Supplier Part Number 1: LT6600IS8-10#TR-ND; Packing: Reel; Type: DIFF; Mounting Technology: Surface Mount; ComponentLink1Description: Manufacturer URL; ComponentLink1URL: http://www.linear.com/; ComponentLink2Description: Datasheet; ComponentLink2URL: http://cds.linear.com/docs/en/datasheet/66001fe.pdf; ComponentLink3Description: Package Specification; ComponentLink3URL: http://cds.linear.com/docs/en/packaging/05081610_G_SO8.pdf
footprint LT-S8-8_N (SOIC, 8-Leads, Body 4.9x3.9mm, Pitch 1.27mm, IPC Medium Density)
footprint LT-S8-8_L (SOIC, 8-Leads, Body 4.9x3.9mm, Pitch 1.27mm, IPC High Density)
footprint LT-S8-8_M (SOIC, 8-Leads, Body 4.9x3.9mm, Pitch 1.27mm, IPC Low Density)
pins: 1 IN- (in) "Input Pins. Signals can be applied to either or both input pins through identical external resistors, RIN. The DC gain from differential inputs to the differential outputs is 1580ohm/RIN.", 2 VOCM (in) "Is the DC Common Mode Reference Voltage for the 2nd Filter Stage. Its value programs the common mode voltage of the differential output of the fi lter. This is a high impedance input, which can be driven from an external (See Datasheet)", 3 V+ (power) "Power Supply Pins. For a single 3.3V or 5V supply (V- grounded) a quality 0.1uF ceramic bypass capacitor is required from the positive supply pin (V+) to the negative supply pin (V-). The bypass should be as close as (See Datasheet)", 4 OUT+ (out) "Output Pins. These are the fi lter differential outputs. Each pin can drive a 100O and/or 50pF load to AC ground.", 5 OUT- (out) "Output Pins. These are the fi lter differential outputs. Each pin can drive a 100ohm and/or 50pF load to AC ground.", 6 V- (power) "Power Supply Pins. For a single 3.3V or 5V supply (V- grounded) a quality 0.1µF ceramic bypass capacitor is required from the positive supply pin (V+) to the negative supply pin (V-). The bypass should be as close as (See Datasheet)", 7 VMID (in) "The VMID pin is internally biased at mid-supply, see block diagram. For single-supply operation the VMID pin should be bypassed with a quality 0.01uF ceramic capacitor to V-. For dual supply operation, VMID can be bypassed (See Datasheet)", 8 IN+ (in) "Input Pins. Signals can be applied to either or both input pins through identical external resistors, RIN. The DC gain from differential inputs to the differential outputs is 1580ohm/RIN."

## LT6600IS8-10#TRPBF
designator U?
Single Channel, Very Low Noise, Differential Amplifier and 10 MHz Lowpass Filter, 10 MHz Typical GBW, 2.7 to 11 V, 8-Pin SOIC (S8-8), Industrial, Pb-Free, Reel; Linear Technology Part Number: LT6600-10; Manufacturer: Linear Technology; PartNumber: LT6600IS8-10#TRPBF; Channels (#): 1; GBW (MHz) Typical: 10; Is (mA) Typical: 35; Vos (mV) Typical: 5; Vs Max (V): 11; Vs Min (V): 2.7; DatasheetVersion: Rev. E; PackageVersion: Rev G; PackageReference: LT-S8-8; PackageDescription: 8-Pin Plastic Small Outline, Body 4.9 x 3.9 mm, Pitch 1.27 mm; Supplier 1: Digi-Key; Supplier Part Number 1: LT6600IS8-10#TRPBF-ND; Packing: Reel; RoHS: Pb-Free; Type: DIFF; Mounting Technology: Surface Mount; ComponentLink1Description: Manufacturer URL; ComponentLink1URL: http://www.linear.com/; ComponentLink2Description: Datasheet; ComponentLink2URL: http://cds.linear.com/docs/en/datasheet/66001fe.pdf; ComponentLink3Description: Package Specification; ComponentLink3URL: http://cds.linear.com/docs/en/packaging/05081610_G_SO8.pdf
footprint LT-S8-8_N (SOIC, 8-Leads, Body 4.9x3.9mm, Pitch 1.27mm, IPC Medium Density)
footprint LT-S8-8_L (SOIC, 8-Leads, Body 4.9x3.9mm, Pitch 1.27mm, IPC High Density)
footprint LT-S8-8_M (SOIC, 8-Leads, Body 4.9x3.9mm, Pitch 1.27mm, IPC Low Density)
pins: 1 IN- (in) "Input Pins. Signals can be applied to either or both input pins through identical external resistors, RIN. The DC gain from differential inputs to the differential outputs is 1580ohm/RIN.", 2 VOCM (in) "Is the DC Common Mode Reference Voltage for the 2nd Filter Stage. Its value programs the common mode voltage of the differential output of the fi lter. This is a high impedance input, which can be driven from an external (See Datasheet)", 3 V+ (power) "Power Supply Pins. For a single 3.3V or 5V supply (V- grounded) a quality 0.1uF ceramic bypass capacitor is required from the positive supply pin (V+) to the negative supply pin (V-). The bypass should be as close as (See Datasheet)", 4 OUT+ (out) "Output Pins. These are the fi lter differential outputs. Each pin can drive a 100O and/or 50pF load to AC ground.", 5 OUT- (out) "Output Pins. These are the fi lter differential outputs. Each pin can drive a 100ohm and/or 50pF load to AC ground.", 6 V- (power) "Power Supply Pins. For a single 3.3V or 5V supply (V- grounded) a quality 0.1µF ceramic bypass capacitor is required from the positive supply pin (V+) to the negative supply pin (V-). The bypass should be as close as (See Datasheet)", 7 VMID (in) "The VMID pin is internally biased at mid-supply, see block diagram. For single-supply operation the VMID pin should be bypassed with a quality 0.01uF ceramic capacitor to V-. For dual supply operation, VMID can be bypassed (See Datasheet)", 8 IN+ (in) "Input Pins. Signals can be applied to either or both input pins through identical external resistors, RIN. The DC gain from differential inputs to the differential outputs is 1580ohm/RIN."